# Altium footprint library PcbLib1.PcbLib: 4 footprints
Each footprint in its own frame and in the unit in brackets; x right, y up, seen from the top. Pads: shape width x height; smd on the part's side, far side on the other; paste and mask are expansions set on the pad; w line width, h text height; cw(c..) or ccw(c..) is an arc to the next point about the centre after c.
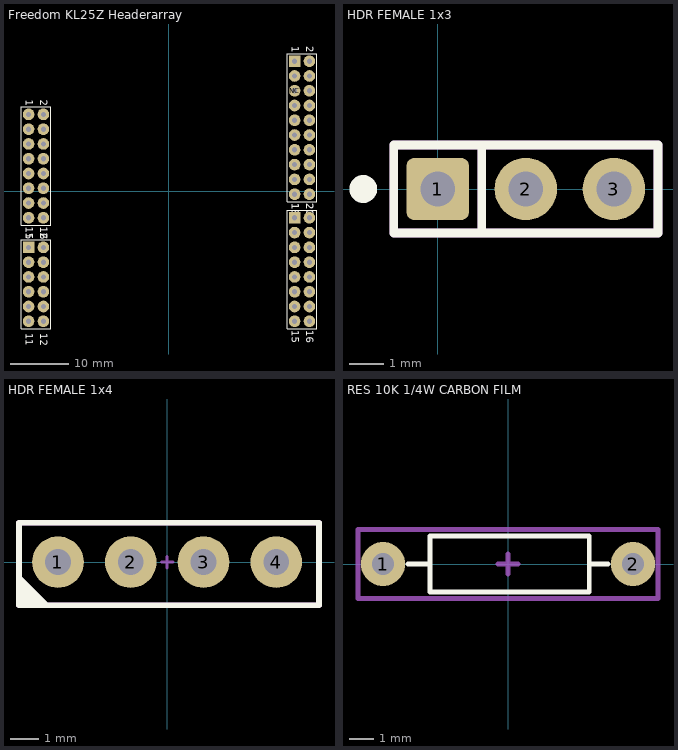
[diagram p0: the footprints below, top view; thin cyan lines are the x and y axes]

## Freedom KL25Z Headerarray [mm] "Headerarray KL25Z Shield"
pads (64):
  round 2 hole 0.9: GND(-24.117,-2.019) GND(-24.117,0.521) GND(24.143,14.745) NC(21.603,17.285) P3V3(-24.117,5.601) P3V3(-24.117,10.681) P5-9V_VIN(-24.117,-4.559) P5V_USB(-24.117,3.061) PTA1(24.143,-22.339) PTA2(24.143,-19.799) PTA4(24.143,-12.179) PTA5(24.143,-9.639) PTA12(24.143,-14.719) PTA13(24.143,-0.495) PTA16(21.603,9.665) PTA17(21.603,12.205) PTB1(-24.117,-12.179) PTB2(-24.117,-14.719) PTB3(-24.117,-17.259) PTB8(-21.577,13.221) PTB9(-21.577,10.681) PTB10(-21.577,8.141) PTB11(-21.577,5.601) PTC0(21.603,-22.339) PTC0(21.603,-19.799) PTC1(-24.117,-22.339) PTC2(-24.117,-19.799) PTC3(21.603,-17.259) PTC4(21.603,-14.719) PTC5(21.603,-12.179) PTC6(21.603,-9.639) PTC8(24.143,-7.099) PTC9(24.143,-4.559) PTC10(21.603,-7.099) PTC12(21.603,-0.495) PTC13(21.603,2.045) PTC16(21.603,4.585) PTC17(21.603,7.125) PTD0(24.143,4.585) PTD1(24.143,12.205) PTD2(24.143,7.125) PTD3(24.143,9.665) PTD4(24.143,-17.259) PTD5(24.143,2.045) PTD6(21.603,19.825) PTE0(24.143,19.825) PTE1(24.143,22.365) PTE2(-21.577,3.061) PTE3(-21.577,0.521) PTE4(-21.577,-2.019) PTE5(-21.577,-4.559) PTE20(-21.577,-9.639) PTE21(-21.577,-12.179) PTE22(-21.577,-14.719) PTE23(-21.577,-17.259) PTE29(-21.577,-19.799) PTE30(-21.577,-22.339) PTE31(21.603,14.745) RESET(-24.117,8.141) SDA_PTD5(-24.117,13.221) VREFH(24.143,17.285)
  rect 2x2 hole 0.9: PTB0(-24.117,-9.639) PTC11(21.603,-4.559) PTD7(21.603,22.365)
Top Overlay:
  lines w0.2: -25.387,-23.609 -25.387,-8.369 -20.307,-8.369 -20.307,-23.609 -25.387,-23.609 ; -25.387,-5.829 -20.307,-5.829 -20.307,14.491 -25.387,14.491 -25.387,-5.829 ; 20.333,-23.609 25.413,-23.609 25.413,-3.289 20.333,-3.289 20.333,-23.609 ; 20.333,-1.765 25.413,-1.765 25.413,21.73 25.413,23.635 20.333,23.635 20.333,21.73 20.333,-1.765
  text "20" at 23.635,-2.019 h1.27
  text "19" at 21.095,-2.019 h1.27
  text "1" at 21.095,24.905 h1.27
  text "2" at 23.635,24.905 h1.27
  text "2" at 23.635,-2.019 h1.27
  text "1" at 21.095,-2.019 h1.27
  text "15" at 21.095,-23.863 h1.27
  text "16" at 23.635,-23.863 h1.27
  text "2" at -22.085,15.761 h1.27
  text "1" at -24.625,15.761 h1.27
  text "15" at -24.625,-6.083 h1.27
  text "16" at -22.085,-6.083 h1.27
  text "12" at -22.085,-24.371 h1.27
  text "1" at -24.625,-25.387 h1.27
  text "1" at -24.625,-24.371 h1.27
  text "1" at -24.625,-7.099 h1.27
  text "2" at -22.085,-7.099 h1.27

## HDR FEMALE 1x3 [mm] "PinHeader 1x3 TH Pitch 2.54mm"
height 9.5
pads (3):
  rrect25% 1.8x1.8 hole 1: 1(0,0)
  round 1.8 hole 1: 2(2.54,0) 3(5.08,0)
Top Overlay:
  circle w0.5: c-2.15,0 r0.15
  lines w0.254: 1.27,-1.27 1.27,1.27 -1.27,1.27 ; -1.27,1.27 6.35,1.27 6.35,-1.27 -1.27,-1.27 -1.27,1.27
Mechanical 3:
  lines w0.254: 1.27,-1.27 1.27,1.27 -1.27,1.27 ; -1.27,1.27 6.35,1.27 6.35,-1.27 -1.27,-1.27 -1.27,1.27
3D body "female_header_a-bl254-eg-g03d.stp": height 8.5, standoff -3.2, extent -1.435,-1.3 6.435,1.2

## HDR FEMALE 1x4 [mm] "Connector; Header; 4 Position"
pads (4):
  round 1.8 hole 0.9: 1(-3.81,0) 2(-1.27,0) 3(1.27,0) 4(3.81,0)
Top Overlay:
  region: -5.17,-1.5 -4.572,-1.5 -4.088,-1.5 -5.17,-0.418
  lines w0.2: -5.17,-1.5 -5.17,1.37 5.3,1.37 5.3,-1.5 -5.17,-1.5
Mechanical 15:
  lines w0.1: -0.2,0 0.2,0 ; 0,-0.2 0,0.2
  lines w0.2: -5.17,-1.5 5.3,-1.5 5.3,1.37 -5.17,1.37 -5.17,-1.5
Mechanical 29:
  text ".Designator" at -4.97,1.87 h0.5
  text "1" at -2.794,-1.143 h0.5
3D body "HDR FEMALE 1x4.STEP": height 8.5, standoff -2.09, extent -5,-1.3 5.16,1.24

## RES 10K 1/4W CARBON FILM [mm]
pads (2):
  round 1.8 hole 0.9: 1(-5.08,0) 2(5.08,0)
Top Overlay:
  lines w0.2: -4.064,0 -3.175,0 ; 3.302,0 4.064,0 ; -3.175,-1.143 3.302,-1.143 3.302,1.143 -3.175,1.143 -3.175,-1.143
Mechanical 15:
  lines w0.2: -0.4,0 0.4,0 ; 0,-0.4 0,0.4 ; -6.096,-1.4 -6.096,1.4 6.096,1.4 6.096,-1.4 -6.096,-1.4
Mechanical 29:
  text ".Designator" at -5.9,1.8 h0.5
  text "1" at -3.937,-1.016 h0.5
3D body "RES 10K .25W CARBON FILM.STEP": height 3.27, standoff -1.27, extent -5.473,-1.27 5.474,1.27